# Altium footprint library SMD-4_4.6x6.5x2.54P.PcbLib: 1 footprints
Each footprint in its own frame and in the unit in brackets; x right, y up, seen from the top. Pads: shape width x height; smd on the part's side, far side on the other; paste and mask are expansions set on the pad; w line width, h text height; cw(c..) or ccw(c..) is an arc to the next point about the centre after c.
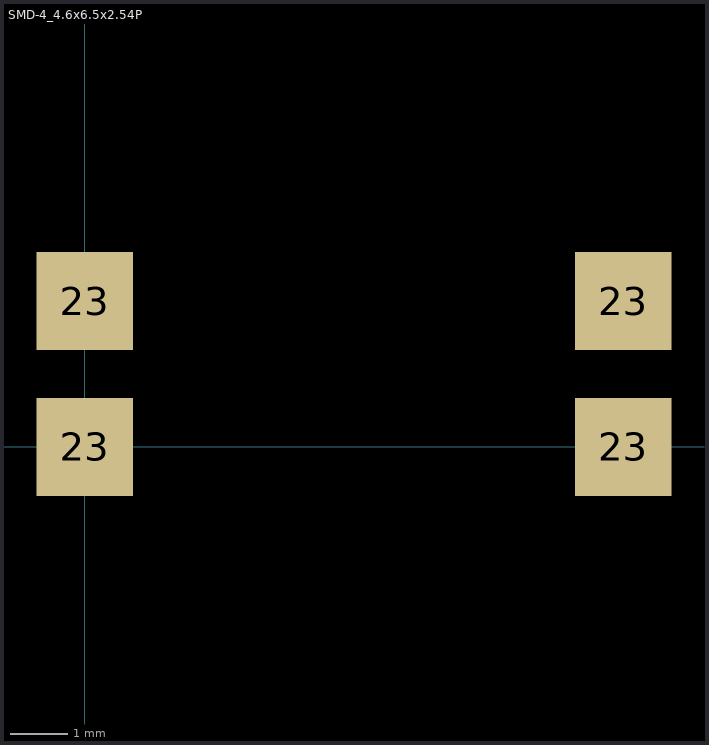
[diagram p0: the footprint, top view; thin cyan lines are the x and y axes]

## SMD-4_4.6x6.5x2.54P [mm]
pads (4):
  rect 1.68x1.71 smd: 23(0,0) 23(0,2.54) 23(9.39,0) 23(9.39,2.54)